# Altium schematic symbol library SCH - AMP AUDIO - ANALOG SSM2518CPZ.SchLib: 1 symbol
Pins are listed as number, name and electrical type; pins without a type are passive.

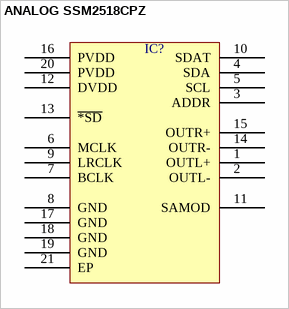
[diagram p0: symbol ANALOG SSM2518CPZ]

## ANALOG SSM2518CPZ
designator IC?  (value not drawn)
pins: 1 OUTL+, 2 OUTL-, 3 ADDR, 4 SDA, 5 SCL, 6 MCLK, 7 BCLK, 8 GND, 9 LRCLK, 10 SDAT, 11 SAMOD, 12 DVDD, 13 ~{*SD}, 14 OUTR-, 15 OUTR+, 16 PVDD, 17 GND, 18 GND, 19 GND, 20 PVDD, 21 EP